# Altium footprint library MOLEX-04_180M.PcbLib: 1 footprints
Each footprint in its own frame and in the unit in brackets; x right, y up, seen from the top. Pads: shape width x height; smd on the part's side, far side on the other; paste and mask are expansions set on the pad; w line width, h text height; cw(c..) or ccw(c..) is an arc to the next point about the centre after c.
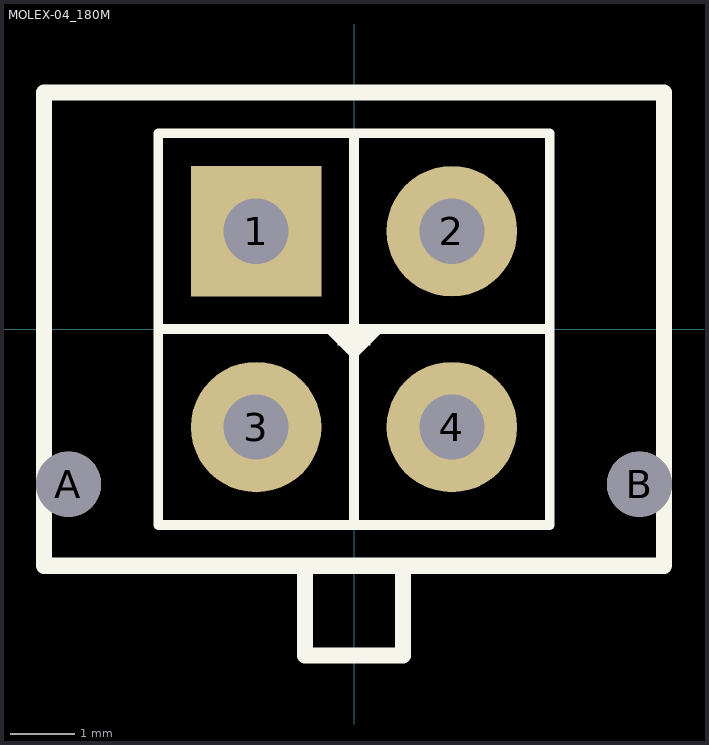
[diagram p0: the footprint, top view; thin cyan lines are the x and y axes]

## MOLEX-04_180M [mil]
pads (6):
  rect 80x80 hole 40: 1(-60,60)
  round 80 hole 40: 2(60,60) 3(-60,-60) 4(60,-60)
  round 40 hole 40 unplated: A(-175,-95) B(175,-95)
TopOverlay:
  region: 10,0 -10,0 -10,-10 10,-10
  lines w6: -120,0 120,0 ; -15,0 0,-15 15,0 ; 0,-120 0,120 ; -120,-120 120,-120 120,120 -120,120 -120,-120
  lines w10: -30,-145 -30,-200 30,-200 30,-145 ; -190,-145 190,-145 190,145 -190,145 -190,-145